# Altium schematic symbol library NSIM-2-C.SchLib: 1 symbol
Pins are listed as number, name and electrical type; pins without a type are passive.

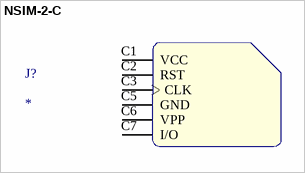
[diagram p0: symbol NSIM-2-C]

## NSIM-2-C
designator J?
Nano SIM Card Connectors, 6 Positions, Connector, Hinged, Surface Mount, 1.4 mm Height Above Board, Gold Flash; MF: Same Sky; MP: NSIM-2-C; SnapEDA_Link: https://www.snapeda.com/parts/NSIM-2-C/Same+Sky/view-part/?ref=snap; Package: None; Value: *; Check_prices: https://www.snapeda.com/parts/NSIM-2-C/Same+Sky/view-part/?ref=eda
footprint CUI_NSIM-2-C
pins: C1 VCC, C2 RST, C3 CLK, C5 GND, C6 VPP, C7 I/O